# EAGLE library part CD4001BM96E4 (library CD4001BM96E4)
NOR Gate 4-Element 2-IN CMOS 14-Pin SOIC T/R Source: Datasheet <https://www.arrow.com/en/products/cd4001bm96e4/texas-instruments>
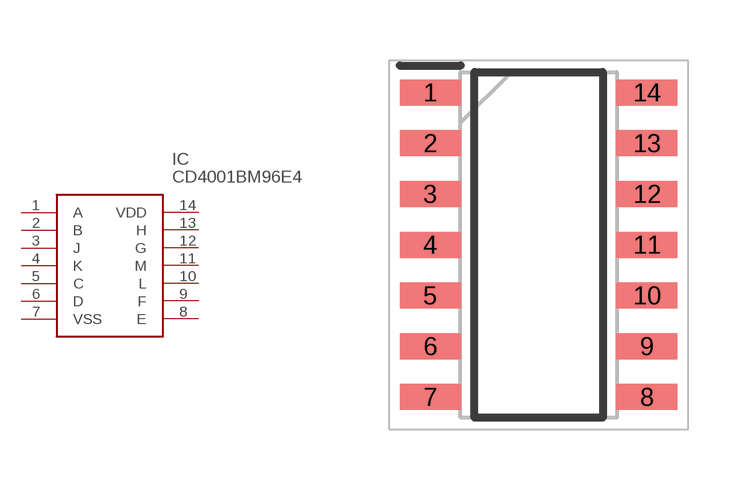
[diagram p0: symbol with the pads of SOIC127P600X175-14N; footprint SOIC127P600X175-14N]

Designator prefix IC

## CD4001BM96E4 (Description: NOR Gate 4-Element 2-IN CMOS 14-Pin SOIC T/R; Height: 1.75mm; Manufacturer_Name: Texas Instruments; Manufacturer_Part_Number: CD4001BM96E4; Mouser_Part_Number: 595-CD4001BM96E4; Mouser_Price-Stock: https://www.mouser.co.uk/ProductDetail/Texas-Instruments/CD4001BM96E4?qs=HTr%252BoA4jRik4r%252BnjfY%2FKSQ%3D%3D)  [SOIC127P600X175-14N]
1  A
2  B
3  J
4  K
5  C
6  D
7  VSS
8  E
9  F
10  L
11  M
12  G
13  H
14  VDD

## Footprint SOIC127P600X175-14N (pad centres in mm)
D (-R-PDSO-G14)
smd 1.525 x 0.65: 1 -2.712,3.81; 2 -2.712,2.54; 3 -2.712,1.27; 4 -2.712,0; 5 -2.712,-1.27; 6 -2.712,-2.54; 7 -2.712,-3.81; 8 2.712,-3.81; 9 2.712,-2.54; 10 2.712,-1.27; 11 2.712,0; 12 2.712,1.27; 13 2.712,2.54; 14 2.712,3.81